# EAGLE library part MT5-8X8 (library chuong)
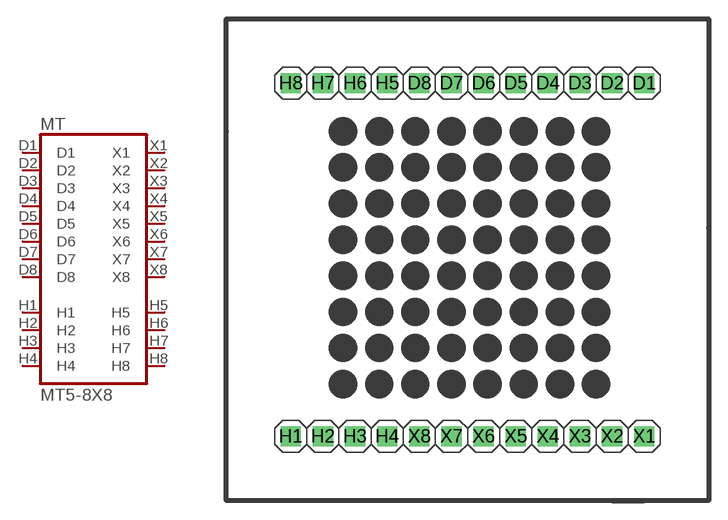
[diagram p13: symbol with the pads of MT5-8X8; footprint MT5-8X8]

Designator prefix MT

## MT5-8X8  [MT5-8X8]
D1  D1  in
D2  D2  in
D3  D3  in
D4  D4  in
D5  D5  in
D6  D6  in
D7  D7  in
D8  D8  in
H1  H1  in
H2  H2  in
H3  H3  in
H4  H4  in
H5  H5  out
H6  H6  out
H7  H7  out
H8  H8  out
X1  X1  out
X2  X2  out
X3  X3  out
X4  X4  out
X5  X5  out
X6  X6  out
X7  X7  out
X8  X8  out

## Footprint MT5-8X8 (pad centres in mm)
drill 0.61 pad 1.6 square: D1 33.02,33.02; D2 30.48,33.02; D3 27.94,33.02; D4 25.4,33.02; D5 22.86,33.02; D6 20.32,33.02; D7 17.78,33.02; D8 15.24,33.02; H1 5.08,5.08; H2 7.62,5.08; H3 10.16,5.08; H4 12.7,5.08; H5 12.7,33.02; H6 10.16,33.02; H7 7.62,33.02; H8 5.08,33.02; X1 33.02,5.08; X2 30.48,5.08; X3 27.94,5.08; X4 25.4,5.08; X5 22.86,5.08; X6 20.32,5.08; X7 17.78,5.08; X8 15.24,5.08